# Altium footprint library LegacySMD-SOTxx.PcbLib: 32 footprints (part 2 of 2)
Each footprint in its own frame and in the unit in brackets; x right, y up, seen from the top. Pads: shape width x height; smd on the part's side, far side on the other; paste and mask are expansions set on the pad; w line width, h text height; cw(c..) or ccw(c..) is an arc to the next point about the centre after c.
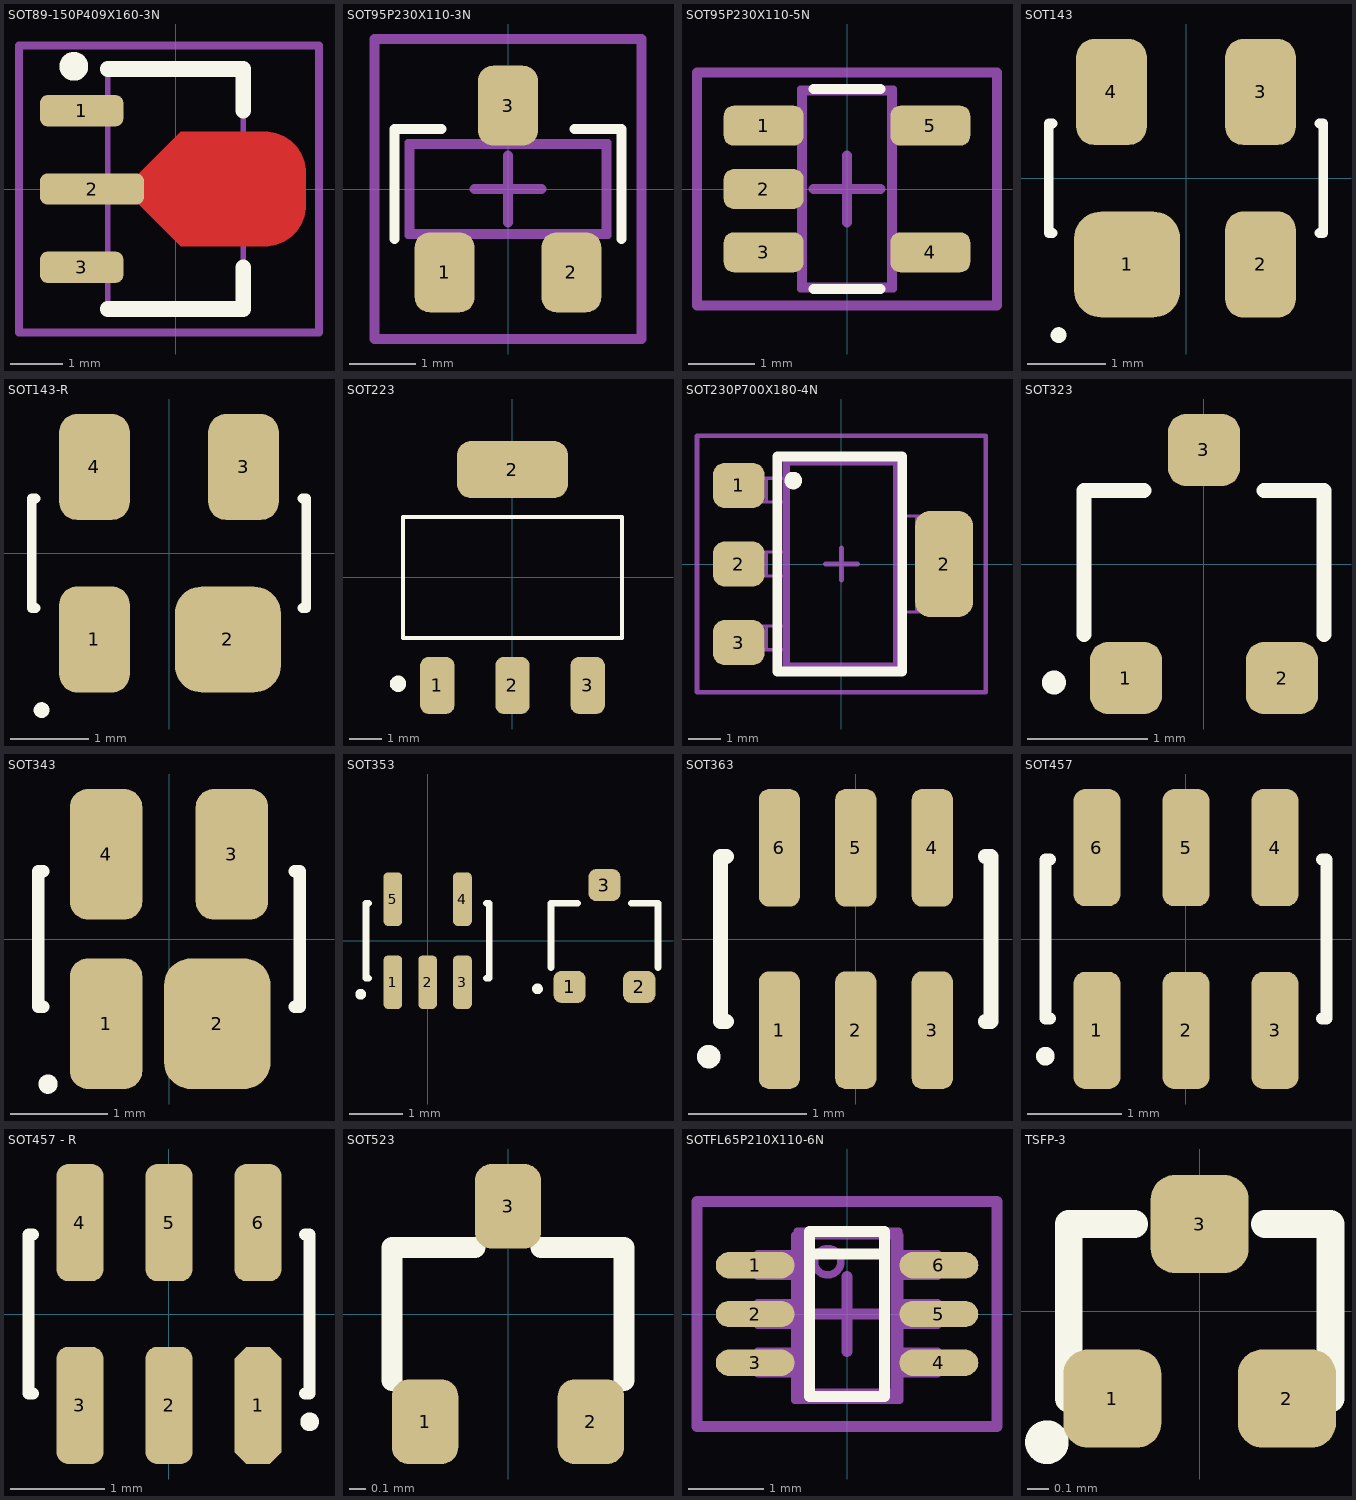
[diagram p1: the footprints below, top view; thin cyan lines are the x and y axes]

## SOT89-150P409X160-3N [mm] "SOT89, 3-Leads, Body 4,50x2,50mm, Pitch 1,50mm, Lead Span 4,1mm, IPC Medium Density"
height 1.6
pads (3):
  rrect50% 1.6x0.6 smd: 1(-1.8,1.5) 3(-1.8,-1.5)
  rrect50% 2x0.6 smd: 2(-1.6,0)
Top Layer:
  region: -0.7,0.3 0.1,1.1 1.7,1.1 1.779,1.1 1.933,1.069 2.079,1.009 2.21,0.921 2.321,0.81 2.409,0.679 2.469,0.533 2.5,0.379 2.5,0.3 2.5,-0.3 2.5,-0.379 2.469,-0.533 2.409,-0.679 2.321,-0.81 2.21,-0.921 2.079,-1.009 1.933,-1.069 1.779,-1.1 1.7,-1.1 0.1,-1.1 -0.7,-0.3
Top Overlay:
  circle w0.3: c-1.95,2.35 r0.125
  lines w0.3: -1.3,-2.3 1.3,-2.3 1.3,-1.5 ; -1.3,2.3 1.3,2.3 1.3,1.5
Mechanical 3:
  text ".Designator / .Comment" at -0.8,2.5 h1.2
Mechanical 13:
  circle w0.1: c-1.9,2.4 r0.158
  region: 1.3,0.6 1.6,0.6 2,0.2 2,-0.2 1.6,-0.6 1.3,-0.6
  region: -1.328,1.397 -1.328,1.722 -2.228,1.722 -2.228,1.397
  region: -1.328,-0.127 -1.328,0.198 -2.228,0.198 -2.228,-0.127
  region: -1.328,-1.651 -1.328,-1.326 -2.228,-1.326 -2.228,-1.651
  lines w0.1: -1.3,-2.3 1.3,-2.3 1.3,2.3 -1.3,2.3 -1.3,-2.3
  lines w0.254: 1.4,-0.6 1.6,-0.6 2,-0.2 2,0.2 1.6,0.6 1.4,0.6
Mechanical 15:
  lines w0.15: -0.5,0 0.5,0 ; 0,-0.5 0,0.5 ; -3,-2.75 2.75,-2.75 2.75,2.75 -3,2.75 -3,-2.75
3D body "SOT89.STEP": height 1.5, standoff 0, extent -2.149,-2.239 1.946,2.261

## SOT95P230X110-3N [mm] "SOT23, 3-Leads, Body 2,90x2,30mm, Pitch 0,95mm, IPC Medium Density"
height 1.1
pads (3):
  rrect50% 0.9x1.2 smd: 1(-0.95,-1.25) 2(0.95,-1.25) 3(0,1.25)
Top Overlay:
  lines w0.15: -1.7,-0.75 -1.7,0.9 -1,0.9 ; 1,0.9 1.7,0.9 1.7,-0.75
Mechanical 3:
  text ".Designator / .Comment" at -1.25,-0.5 h0.6
Mechanical 13:
  lines w0.1: -1.5,-0.7 -1.175,-0.7 ; -1.5,-0.7 -1.5,0.7 ; -1.5,-0.7 -1.452,-0.652 ; -1.5,-0.7 -1.175,-0.7 ; -1.5,-0.7 -1.5,0.7 ; -1.5,0.7 -0.225,0.7 ; -1.5,0.7 -1.452,0.652 ; -1.5,0.7 -0.225,0.7 ; -1.452,-0.652 1.452,-0.652 ; -1.452,-0.652 -1.452,0.652 ; -1.452,0.652 1.452,0.652 ; -1.175,-1.25 -1.175,-1.027 ; -1.175,-1.25 -0.725,-1.25 ; -1.175,-1.25 -0.725,-1.25 ; -1.175,-1.25 -1.175,-0.7 ; -1.175,-1.027 -0.725,-1.027 ; -1.175,-1.027 -1.175,-0.977 ; -1.175,-0.977 -0.725,-0.977 ; -1.175,-0.977 -1.175,-0.955 ; -1.175,-0.955 -0.725,-0.955 ; -1.175,-0.955 -1.175,-0.757 ; -1.175,-0.757 -0.725,-0.757 ; -1.175,-0.757 -1.175,-0.7 ; -1.175,-0.7 -0.725,-0.7 ; -0.725,-1.25 -0.725,-1.027 ; -0.725,-1.25 -0.725,-0.7 ; -0.725,-1.027 -0.725,-0.977 ; -0.725,-0.977 -0.725,-0.955 ; -0.725,-0.955 -0.725,-0.757 ; -0.725,-0.757 -0.725,-0.7 ; -0.725,-0.7 0.725,-0.7 ; -0.725,-0.7 0.725,-0.7 ; -0.225,0.7 -0.225,0.757 ; -0.225,0.7 0.225,0.7 ; -0.225,0.7 -0.225,1.25 ; -0.225,0.757 0.225,0.757 ; -0.225,0.757 -0.225,0.955 ; -0.225,0.955 0.225,0.955 ; -0.225,0.955 -0.225,0.977 ; -0.225,0.977 0.225,0.977 ; -0.225,0.977 -0.225,1.027 ; -0.225,1.027 0.225,1.027 ; -0.225,1.027 -0.225,1.25 ; -0.225,1.25 0.225,1.25 ; -0.225,1.25 0.225,1.25 ; 0.225,0.7 0.225,0.757 ; 0.225,0.7 1.5,0.7 ; 0.225,0.7 0.225,1.25 ; 0.225,0.7 1.5,0.7 ; 0.225,0.757 0.225,0.955 ; 0.225,0.955 0.225,0.977 ; 0.225,0.977 0.225,1.027 ; 0.225,1.027 0.225,1.25 ; 0.725,-1.25 0.725,-1.027 ; 0.725,-1.25 1.175,-1.25 ; 0.725,-1.25 1.175,-1.25 ; 0.725,-1.25 0.725,-0.7 ; 0.725,-1.027 1.175,-1.027 ; 0.725,-1.027 0.725,-0.977 ; 0.725,-0.977 1.175,-0.977 ; 0.725,-0.977 0.725,-0.955 ; 0.725,-0.955 1.175,-0.955 ; 0.725,-0.955 0.725,-0.757 ; 0.725,-0.757 1.175,-0.757 ; 0.725,-0.757 0.725,-0.7 ; 0.725,-0.7 1.175,-0.7 ; 1.175,-1.25 1.175,-1.027 ; 1.175,-1.25 1.175,-0.7 ; 1.175,-1.027 1.175,-0.977 ; 1.175,-0.977 1.175,-0.955 ; 1.175,-0.955 1.175,-0.757 ; 1.175,-0.757 1.175,-0.7 ; 1.175,-0.7 1.5,-0.7 ; 1.175,-0.7 1.5,-0.7 ; 1.452,-0.652 1.452,0.652 ; 1.452,-0.652 1.5,-0.7 ; 1.452,0.652 1.5,0.7 ; 1.5,-0.7 1.5,0.7 ; 1.5,-0.7 1.5,0.7
Mechanical 15:
  lines w0.15: -0.5,0 0.5,0 ; 0,-0.5 0,0.5 ; -2,-2.25 2,-2.25 2,2.25 -2,2.25 -2,-2.25
3D body "SOT-23 3.STEP": height 1, standoff -0.02, extent -1.46,-1.269 1.46,1.207

## SOT95P230X110-5N [mm] "SOT23, 5-Leads, Body 2,90x2,30mm, Pitch 0,95mm, IPC Medium Density"
height 1.1
pads (5):
  rrect50% 1.2x0.6 smd: 1(-1.25,0.95) 2(-1.25,0) 3(-1.25,-0.95) 4(1.25,-0.95) 5(1.25,0.95)
Top Overlay:
  lines w0.15: -0.5,-1.5 0.5,-1.5 ; -0.5,1.5 0.5,1.5
Mechanical 3:
  text ".Designator / .Comment" at -0.5,1.25 h0.6
Mechanical 13:
  lines w0.1: -1.25,-1.175 -1.027,-1.175 ; -1.25,-1.175 -1.25,-0.725 ; -1.25,-1.175 -1.25,-0.725 ; -1.25,-1.175 -0.7,-1.175 ; -1.25,-0.725 -1.027,-0.725 ; -1.25,-0.725 -0.7,-0.725 ; -1.25,-0.225 -1.027,-0.225 ; -1.25,-0.225 -1.25,0.225 ; -1.25,-0.225 -0.7,-0.225 ; -1.25,-0.225 -1.25,0.225 ; -1.25,0.225 -1.027,0.225 ; -1.25,0.225 -0.7,0.225 ; -1.25,0.725 -1.027,0.725 ; -1.25,0.725 -1.25,1.175 ; -1.25,0.725 -0.7,0.725 ; -1.25,0.725 -1.25,1.175 ; -1.25,1.175 -1.027,1.175 ; -1.25,1.175 -0.7,1.175 ; -1.027,-1.175 -1.027,-0.725 ; -1.027,-1.175 -0.977,-1.175 ; -1.027,-0.725 -0.977,-0.725 ; -1.027,-0.225 -1.027,0.225 ; -1.027,-0.225 -0.977,-0.225 ; -1.027,0.225 -0.977,0.225 ; -1.027,0.725 -1.027,1.175 ; -1.027,0.725 -0.977,0.725 ; -1.027,1.175 -0.977,1.175 ; -0.977,-1.175 -0.977,-0.725 ; -0.977,-1.175 -0.955,-1.175 ; -0.977,-0.725 -0.955,-0.725 ; -0.977,-0.225 -0.977,0.225 ; -0.977,-0.225 -0.955,-0.225 ; -0.977,0.225 -0.955,0.225 ; -0.977,0.725 -0.977,1.175 ; -0.977,0.725 -0.955,0.725 ; -0.977,1.175 -0.955,1.175 ; -0.955,-1.175 -0.955,-0.725 ; -0.955,-1.175 -0.757,-1.175 ; -0.955,-0.725 -0.757,-0.725 ; -0.955,-0.225 -0.955,0.225 ; -0.955,-0.225 -0.757,-0.225 ; -0.955,0.225 -0.757,0.225 ; -0.955,0.725 -0.955,1.175 ; -0.955,0.725 -0.757,0.725 ; -0.955,1.175 -0.757,1.175 ; -0.757,-1.175 -0.757,-0.725 ; -0.757,-1.175 -0.7,-1.175 ; -0.757,-0.725 -0.7,-0.725 ; -0.757,-0.225 -0.757,0.225 ; -0.757,-0.225 -0.7,-0.225 ; -0.757,0.225 -0.7,0.225 ; -0.757,0.725 -0.757,1.175 ; -0.757,0.725 -0.7,0.725 ; -0.757,1.175 -0.7,1.175 ; -0.7,-1.5 0.7,-1.5 ; -0.7,-1.5 -0.7,-1.175 ; -0.7,-1.5 -0.652,-1.452 ; -0.7,-1.5 -0.7,-1.175 ; -0.7,-1.5 0.7,-1.5 ; -0.7,-1.175 -0.7,-0.725 ; -0.7,-0.725 -0.7,-0.225 ; -0.7,-0.725 -0.7,-0.225 ; -0.7,-0.225 -0.7,0.225 ; -0.7,0.225 -0.7,0.725 ; -0.7,0.225 -0.7,0.725 ; -0.7,0.725 -0.7,1.175 ; -0.7,1.175 -0.7,1.5 ; -0.7,1.175 -0.7,1.5 ; -0.7,1.5 0.7,1.5 ; -0.7,1.5 -0.652,1.452 ; -0.7,1.5 0.7,1.5 ; -0.652,-1.452 0.652,-1.452 ; -0.652,-1.452 -0.652,1.452 ; -0.652,1.452 0.652,1.452 ; 0.652,-1.452 0.652,1.452 ; 0.652,-1.452 0.7,-1.5 ; 0.652,1.452 0.7,1.5 ; 0.7,-1.5 0.7,-1.175 ; 0.7,-1.5 0.7,-1.175 ; 0.7,-1.175 0.757,-1.175 ; 0.7,-1.175 0.7,-0.725 ; 0.7,-1.175 1.25,-1.175 ; 0.7,-0.725 0.757,-0.725 ; 0.7,-0.725 0.7,0.725 ; 0.7,-0.725 1.25,-0.725 ; 0.7,-0.725 0.7,0.725 ; 0.7,0.725 0.757,0.725 ; 0.7,0.725 0.7,1.175 ; 0.7,0.725 1.25,0.725 ; 0.7,1.175 0.757,1.175 ; 0.7,1.175 0.7,1.5 ; 0.7,1.175 1.25,1.175 ; 0.7,1.175 0.7,1.5 ; 0.757,-1.175 0.757,-0.725 ; 0.757,-1.175 0.955,-1.175 ; 0.757,-0.725 0.955,-0.725 ; 0.757,0.725 0.757,1.175 ; 0.757,0.725 0.955,0.725 ; 0.757,1.175 0.955,1.175 ; 0.955,-1.175 0.955,-0.725 ; 0.955,-1.175 0.977,-1.175 ; 0.955,-0.725 0.977,-0.725 ; 0.955,0.725 0.955,1.175 ; 0.955,0.725 0.977,0.725 ; 0.955,1.175 0.977,1.175 ; 0.977,-1.175 0.977,-0.725 ; 0.977,-1.175 1.027,-1.175 ; 0.977,-0.725 1.027,-0.725 ; 0.977,0.725 0.977,1.175 ; 0.977,0.725 1.027,0.725 ; 0.977,1.175 1.027,1.175 ; 1.027,-1.175 1.027,-0.725 ; 1.027,-1.175 1.25,-1.175 ; 1.027,-0.725 1.25,-0.725 ; 1.027,0.725 1.027,1.175 ; 1.027,0.725 1.25,0.725 ; 1.027,1.175 1.25,1.175 ; 1.25,-1.175 1.25,-0.725 ; 1.25,-1.175 1.25,-0.725 ; 1.25,0.725 1.25,1.175 ; 1.25,0.725 1.25,1.175
Mechanical 15:
  lines w0.15: -0.5,0 0.5,0 ; 0,-0.5 0,0.5 ; -2.25,-1.75 -2.25,1.75 2.25,1.75 2.25,-1.75 -2.25,-1.75
3D body "SOT95P245X110-5N.step": height 1.1, standoff 0, extent -1.3,-1.5 1.3,1.5

## SOT143 [mm] "SOT-143; 4 Leads; Body 3 x 2.6 mm, inc. leads (LxW max)"
height 1.1
pads (4):
  rrect50% 1.35x1.35 smd: 1(-0.75,-1.1)
  rrect50% 0.9x1.35 smd: 2(0.95,-1.1) 3(0.95,1.1) 4(-0.95,1.1)
Top Overlay:
  circle w0.1: c-1.625,-2 r0.05
  lines w0.127: -1.7,-0.7 -1.75,-0.7 -1.75,0.7 -1.7,0.7 ; 1.7,-0.7 1.75,-0.7 1.75,0.7 1.7,0.7
3D body "SOT143.STEP": height 1.08, standoff -0.02, extent -1.501,-1.25 1.499,1.25

## SOT143-R [mm] "SOT-143; 4 Leads; Body 3 x 2.6 mm, inc. leads (LxW max)"
height 1.1
pads (4):
  rrect50% 0.9x1.35 smd: 1(-0.95,-1.1) 3(0.95,1.1) 4(-0.95,1.1)
  rrect50% 1.35x1.35 smd: 2(0.75,-1.1)
Top Overlay:
  circle w0.1: c-1.625,-2 r0.05
  lines w0.127: -1.7,-0.7 -1.75,-0.7 -1.75,0.7 -1.7,0.7 ; 1.7,-0.7 1.75,-0.7 1.75,0.7 1.7,0.7
3D body "SOT143R.STEP": height 1.08, standoff -0.02, extent -1.5,-1.25 1.5,1.25

## SOT223 [mm] "SOT-223/SC-73; 4 Leads; Body 6.7 x 7.3 mm, inc. leads (LxW max)"
height 1.8
pads (4):
  rrect50% 1.05x1.75 smd: 1(-2.3,-3.3) 2(0,-3.3) 3(2.3,-3.3)
  rrect50% 3.4x1.75 smd: 2(0,3.3)
Top Overlay:
  circle w0.25: c-3.5,-3.25 r0.125
  lines w0.127: -3.35,-1.85 -3.35,1.85 3.35,1.85 3.35,-1.85 -3.35,-1.85
3D body "SOT223.STEP": height 1.64, standoff -0.01, extent -3.25,-3.5 3.25,3.5

## SOT230P700X180-4N [mm] "SOT223, 4-Leads, Body 6,50x7,00mm (avg), Pitch 2,30mm, IPC Medium Density"
height 1.8
pads (4):
  rrect50% 1.6x1.4 smd: 1(-3.2,2.45) 2(-3.2,0) 3(-3.2,-2.45)
  rrect50% 1.8x3.3 smd: 2(3.2,0)
Top Overlay:
  circle w0.3: c-1.5,2.6 r0.125
  lines w0.3: -2,-3.35 1.9,-3.35 1.9,3.35 -2,3.35 -2,-3.35
Mechanical 3:
  text ".Designator / .Comment" at -0.762,2.159 h1.02
Mechanical 13:
  drawing of 520 lines, arcs and shapes, not listed
Mechanical 15:
  lines w0.15: -0.5,0 0.5,0 ; 0,-0.5 0,0.5 ; -4.5,-4 4.5,-4 4.5,4 -4.5,4 -4.5,-4
3D body "SOT223.STEP": height 1.64, standoff -0.01, extent -3.5,-3.25 3.5,3.25

## SOT323 [mm] "SOT-323/SC-70; 3 Leads; Body 2.2 x 2.2 mm, inc. leads (LxW max)"
height 1
pads (3):
  rrect50% 0.6x0.6 smd: 1(-0.65,-0.95) 2(0.65,-0.95) 3(0,0.95)
Top Overlay:
  circle w0.1: c-1.25,-0.987 r0.05
  lines w0.127: -1,-0.587 -1,0.613 -0.5,0.613 ; 0.5,0.613 1,0.613 1,-0.587
3D body "SOT323.STEP": height 0.9, standoff 0, extent -1.05,-1.037 1.05,1.063

## SOT343 [mm] "SOT-343; 4 Leads; Body 2.2 x 2.2 mm, inc. leads (LxW max)"
height 1
pads (4):
  rrect50% 0.75x1.35 smd: 1(-0.65,-0.875) 3(0.65,0.875) 4(-0.65,0.875)
  rrect50% 1.1x1.35 smd: 2(0.5,-0.875)
Top Overlay:
  circle w0.1: c-1.25,-1.5 r0.05
  lines w0.127: -1.3,-0.7 -1.35,-0.7 -1.35,0.7 -1.3,0.7 ; 1.3,-0.7 1.35,-0.7 1.35,0.7 1.3,0.7
3D body "SOT343.STEP": height 1, standoff 0, extent -1.1,-1.1 1.1,1.1

## SOT353 [mm] "SOT-353/SC-88A; 5 Leads; Body 2.2 x 2.2 mm, inc. leads (LxW max)"
height 1
pads (8):
  rrect50% 0.35x1 smd: 1(-0.65,-0.775) 2(0,-0.775) 3(0.65,-0.775) 4(0.65,0.775) 5(-0.65,0.775)
  rrect50% 0.6x0.6 smd: 1(2.65,-0.863) 2(3.95,-0.863) 3(3.3,1.037)
Top Overlay:
  circle w0.1: c2.05,-0.9 r0.05
  circle w0.1: c-1.25,-1 r0.05
  lines w0.127: -1.1,-0.7 -1.15,-0.7 -1.15,0.7 -1.1,0.7 ; 1.1,-0.7 1.15,-0.7 1.15,0.7 1.1,0.7 ; 2.3,-0.5 2.3,0.7 2.8,0.7 ; 3.8,0.7 4.3,0.7 4.3,-0.5
3D body "SOT323.STEP": height 0.9, standoff 0, extent -1.15,-1.05 0.95,1.05
3D body "SOT353.STEP": height 1, standoff 0, extent -1.05,-1.15 1.05,1.15

## SOT363 [mm] "SOT-363/SC-88; 6 Leads; Body 2.2 x 2.2 mm, inc. leads (LxW max)"
height 1
pads (6):
  rrect50% 0.35x1 smd: 1(-0.65,-0.775) 2(0,-0.775) 3(0.65,-0.775) 4(0.65,0.775) 5(0,0.775) 6(-0.65,0.775)
Top Overlay:
  circle w0.1: c-1.25,-1 r0.05
  lines w0.127: -1.1,-0.7 -1.15,-0.7 -1.15,0.7 -1.1,0.7 ; 1.1,-0.7 1.15,-0.7 1.15,0.7 1.1,0.7
3D body "SOT-363 UMT6.STEP": height 0.95, standoff -0.04, extent -1,-1.05 1,1.05

## SOT457 [mm] "SOT-457/SC-74; 6 Leads; Body 3.1 x 2.6 mm, inc. leads (LxW max)"
height 1.1
pads (6):
  rrect50% 0.5x1.25 smd: 1(-0.95,-0.975) 2(0,-0.975) 3(0.95,-0.975) 4(0.95,0.975) 5(0,0.975) 6(-0.95,0.975)
Top Overlay:
  circle w0.1: c-1.5,-1.25 r0.05
  lines w0.127: -1.45,-0.85 -1.5,-0.85 -1.5,0.85 -1.45,0.85 ; 1.45,-0.85 1.5,-0.85 1.5,0.85 1.45,0.85
3D body "SC74 SOT457.STEP": height 0.94, standoff -0.09, extent -1.5,-1.385 1.5,1.386

## SOT457 - R [mm] "SOT-457/SC-74; 6 Leads; Body 3.1 x 2.6 mm, inc. leads (LxW max)"
height 1.1
pads (6):
  oct 0.5x1.25 smd: 1(0.95,-0.975)
  rrect50% 0.5x1.25 smd: 2(0,-0.975) 3(-0.95,-0.975) 4(-0.95,0.975) 5(0,0.975) 6(0.95,0.975)
Top Overlay:
  circle w0.1: c1.5,-1.15 r0.05
  lines w0.127: -1.45,-0.85 -1.5,-0.85 -1.5,0.85 -1.45,0.85 ; 1.45,-0.85 1.5,-0.85 1.5,0.85 1.45,0.85
3D body "SC74 SOT457.STEP": height 0.94, standoff -0.09, extent -1.5,-1.385 1.5,1.386

## SOT523 [mm] "SOT-323/SC-70; 3 Leads; Body 2.2 x 2.2 mm, inc. leads (LxW max)"
height 1
pads (3):
  rrect50% 0.4x0.51 smd: 1(-0.5,-0.65) 2(0.5,-0.65) 3(0,0.65)
Top Overlay:
  lines w0.127: -0.7,-0.4 -0.7,0.4 -0.2,0.4 ; 0.2,0.4 0.7,0.4 0.7,-0.4
3D body "SOT523.STEP": height 0.8, standoff 0, extent -0.8,-0.8 0.8,0.8

## SOTFL65P210X110-6N [mm] "SOTFL, 6-Leads, Body 2,00x2,10mm, Pitch 0,65mm, IPC Medium Density"
height 1.1
pads (6):
  oval 1.05x0.35 smd: 1(-1.225,0.65) 2(-1.225,0) 3(-1.225,-0.65) 4(1.225,-0.65) 5(1.225,0) 6(1.225,0.65)
Top Overlay:
  lines w0.15: -0.5,0.8 0.5,0.8 ; -0.5,-1.1 -0.5,1.1 0.5,1.1 0.5,-1.1 -0.5,-1.1
Mechanical 3:
  text ".Designator / .Comment" at -0.35,1 h0.5
Mechanical 13:
  circle w0.1: c-0.258,0.696 r0.175
  lines w0.1: -1.016,-0.799 -1.016,-0.499 ; -1.016,-0.799 -1.188,-0.799 -1.188,-0.499 -1.016,-0.499 ; -1.016,-0.799 -0.925,-0.799 ; -1.016,-0.499 -0.925,-0.499 ; -1.016,-0.149 -1.016,0.151 ; -1.016,-0.149 -1.188,-0.149 -1.188,0.151 -1.016,0.151 ; -1.016,-0.149 -0.925,-0.149 ; -1.016,0.151 -0.925,0.151 ; -1.016,0.501 -1.016,0.801 ; -1.016,0.501 -1.188,0.501 -1.188,0.801 -1.016,0.801 ; -1.016,0.501 -0.925,0.501 ; -1.016,0.801 -0.925,0.801 ; -0.925,-0.799 -0.925,-0.499 ; -0.925,-0.799 -0.913,-0.799 ; -0.925,-0.499 -0.913,-0.499 ; -0.925,-0.149 -0.925,0.151 ; -0.925,-0.149 -0.913,-0.149 ; -0.925,0.151 -0.913,0.151 ; -0.925,0.501 -0.925,0.801 ; -0.925,0.501 -0.913,0.501 ; -0.925,0.801 -0.913,0.801 ; -0.913,-0.799 -0.913,-0.499 ; -0.913,-0.799 -0.663,-0.799 ; -0.913,-0.499 -0.663,-0.499 ; -0.913,-0.149 -0.913,0.151 ; -0.913,-0.149 -0.663,-0.149 ; -0.913,0.151 -0.663,0.151 ; -0.913,0.501 -0.913,0.801 ; -0.913,0.501 -0.663,0.501 ; -0.913,0.801 -0.663,0.801 ; -0.663,-1.099 0.687,-1.099 ; -0.663,-1.099 -0.663,-0.799 ; -0.663,-1.099 -0.607,-1.042 ; -0.663,-0.799 -0.663,-0.499 ; -0.663,-0.799 -0.642,-0.799 -0.642,-0.499 -0.663,-0.499 ; -0.663,-0.499 -0.663,-0.149 ; -0.663,-0.149 -0.663,0.151 ; -0.663,-0.149 -0.642,-0.149 -0.642,0.151 -0.663,0.151 ; -0.663,0.151 -0.663,0.501 ; -0.663,0.501 -0.663,0.801 ; -0.663,0.501 -0.642,0.501 -0.642,0.801 -0.663,0.801 ; -0.663,0.801 -0.663,1.101 ; -0.663,1.101 0.687,1.101 ; -0.663,1.101 -0.607,1.045 ; -0.607,-1.042 0.631,-1.042 ; -0.607,-1.042 -0.607,1.045 ; -0.607,1.045 0.631,1.045 ; 0.631,-1.042 0.687,-1.099 ; 0.631,-1.042 0.631,1.045 ; 0.631,1.045 0.687,1.101 ; 0.687,-1.099 0.687,-0.799 ; 0.687,-0.799 0.687,-0.499 ; 0.687,-0.799 0.666,-0.799 0.666,-0.499 0.687,-0.499 ; 0.687,-0.799 0.937,-0.799 ; 0.687,-0.499 0.937,-0.499 ; 0.687,-0.499 0.687,-0.149 ; 0.687,-0.149 0.687,0.151 ; 0.687,-0.149 0.666,-0.149 0.666,0.151 0.687,0.151 ; 0.687,-0.149 0.937,-0.149 ; 0.687,0.151 0.937,0.151 ; 0.687,0.151 0.687,0.501 ; 0.687,0.501 0.687,0.801 ; 0.687,0.501 0.666,0.501 0.666,0.801 0.687,0.801 ; 0.687,0.501 0.937,0.501 ; 0.687,0.801 0.937,0.801 ; 0.687,0.801 0.687,1.101 ; 0.937,-0.799 0.937,-0.499 ; 0.937,-0.799 0.949,-0.799 ; 0.937,-0.499 0.949,-0.499 ; 0.937,-0.149 0.937,0.151 ; 0.937,-0.149 0.949,-0.149 ; 0.937,0.151 0.949,0.151 ; 0.937,0.501 0.937,0.801 ; 0.937,0.501 0.949,0.501 ; 0.937,0.801 0.949,0.801 ; 0.949,-0.799 0.949,-0.499 ; 0.949,-0.799 1.04,-0.799 ; 0.949,-0.499 1.04,-0.499 ; 0.949,-0.149 0.949,0.151 ; 0.949,-0.149 1.04,-0.149 ; 0.949,0.151 1.04,0.151 ; 0.949,0.501 0.949,0.801 ; 0.949,0.501 1.04,0.501 ; 0.949,0.801 1.04,0.801 ; 1.04,-0.799 1.04,-0.499 ; 1.04,-0.799 1.212,-0.799 1.212,-0.499 1.04,-0.499 ; 1.04,-0.149 1.04,0.151 ; 1.04,-0.149 1.212,-0.149 1.212,0.151 1.04,0.151 ; 1.04,0.501 1.04,0.801 ; 1.04,0.501 1.212,0.501 1.212,0.801 1.04,0.801 ; -0.7,-1.15 -0.7,1.05 0.7,1.05 0.7,-1.15 -0.7,-1.15
Mechanical 15:
  lines w0.15: -0.5,0 0.5,0 ; 0,-0.5 0,0.5 ; -2,-1.5 -2,1.5 2,1.5 2,-1.5 -2,-1.5
3D body "TSOP65P260X110-6N.step": height 1.1, standoff 0, extent -1.3,-1.1 1.3,1.1

## TSFP-3 [mm] "1.2x1.2mm"
height 1
pads (3):
  rrect50% 0.45x0.45 smd: 1(-0.4,-0.4) 2(0.4,-0.4) 3(0,0.4)
Top Overlay:
  circle w0.1: c-0.7,-0.6 r0.05
  lines w0.127: -0.6,-0.4 -0.6,0.4 -0.3,0.4 ; 0.3,0.4 0.6,0.4 0.6,-0.4